# Altium footprint library aiskylab-04Dio-1A.PcbLib: 11 footprints
Each footprint in its own frame and in the unit in brackets; x right, y up, seen from the top. Pads: shape width x height; smd on the part's side, far side on the other; paste and mask are expansions set on the pad; w line width, h text height; cw(c..) or ccw(c..) is an arc to the next point about the centre after c.
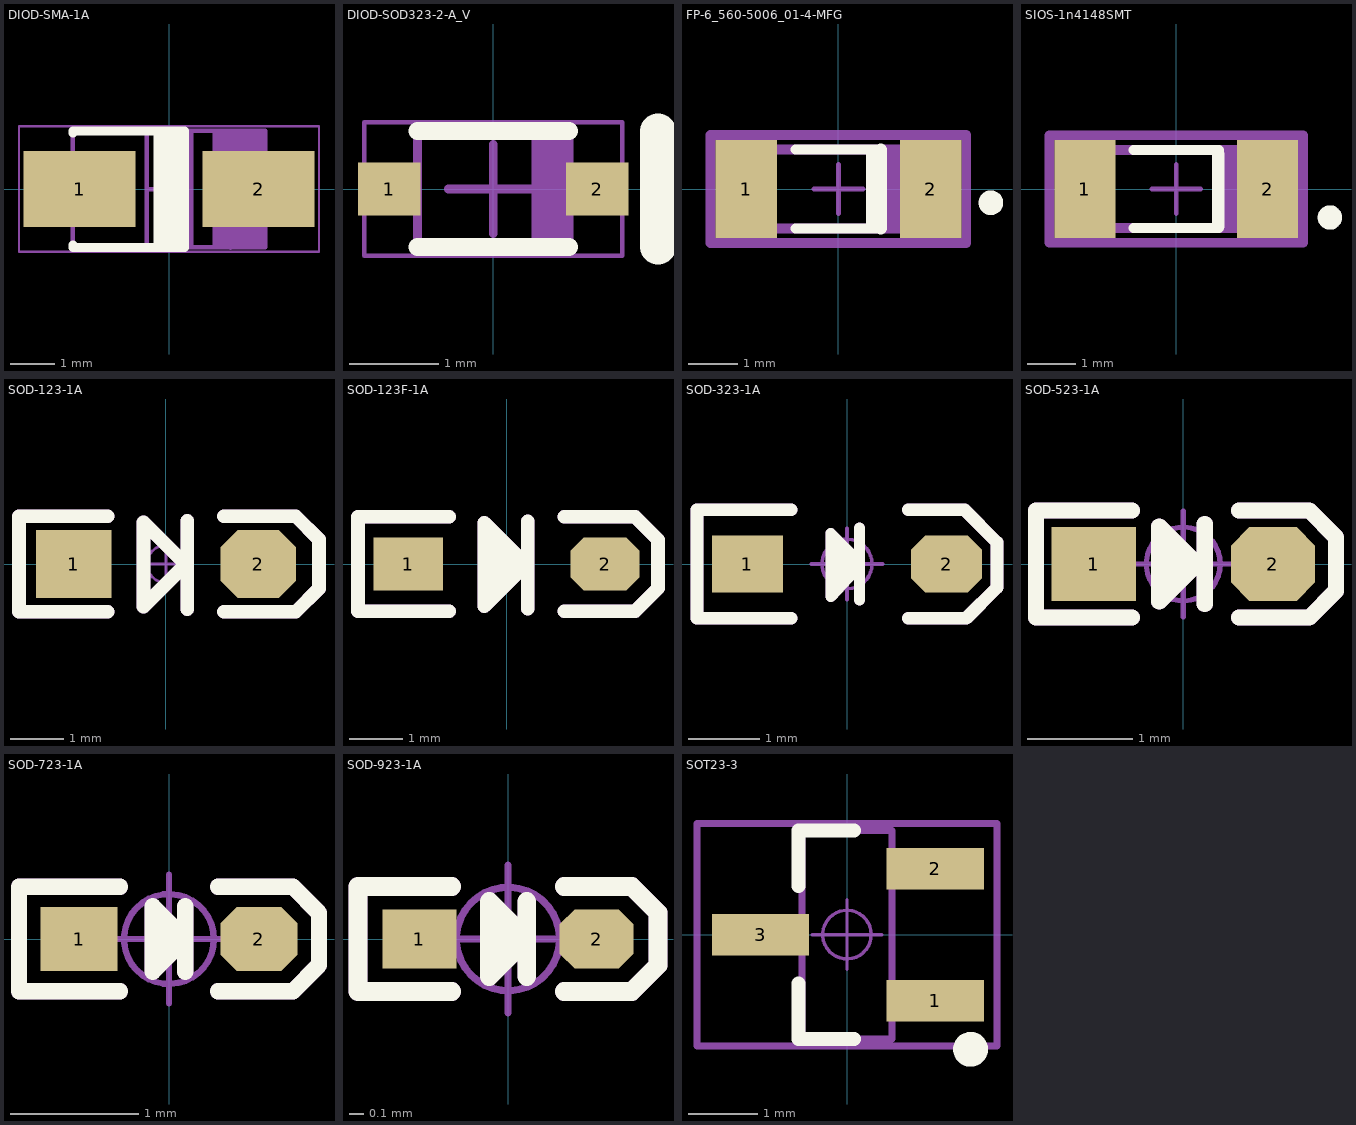
[diagram p0: the footprints below, top view; thin cyan lines are the x and y axes]

## DIOD-SMA-1A [mm] "SMA, 2-Leads, Body 4.3x2.605mm, Height 2.3mm"
height 2.3
pads (2):
  rect 2.5x1.7 smd: 1(-2,0) 2(2,0)
Top Overlay:
  rectangle: -0.35,-1.27 0.35,1.335
  lines w0.2: -2.15,-1.302 0.35,-1.302 0.35,1.302 -2.15,1.302 ; -2.15,-1.302 -2.15,-1.25 ; -2.15,1.25 -2.15,1.302
Top Designator:
  text ".Designator" at -7.619,-0.505 h1.52
Top Assembly:
  rectangle: 0.965,-1.302 2.15,1.27
  lines w0.05: -3.353,-1.397 3.347,-1.397 3.347,1.408 -3.353,1.408 -3.353,-1.397
  lines w0.1: -0.5,-1.302 -0.5,1.302 ; 0.5,-1.302 0.5,1.302 ; -2.15,-1.302 2.15,-1.302 2.15,1.302 -2.15,1.302 -2.15,-1.302
  lines w0.127: 1.372,-1.295 1.372,1.27
Top Component Center:
  lines w0.1: -0.5,0 0.5,0 ; 0,-0.5 0,0.5
Top Component Outline:
  lines w0.05: -3.35,-1.402 3.35,-1.402 3.35,1.402 -3.35,1.402 -3.35,-1.402
Top 3D Body:
  lines w0.1: -0.5,-1.302 -0.5,1.302 ; 0.5,-1.302 0.5,1.302 ; -2.15,-1.302 2.15,-1.302 2.15,1.302 -2.15,1.302 -2.15,-1.302
3D body "1_5-1_5.stp": height 0.01, standoff 0, extent -2.909,-0.75 -1.409,0.75
3D body "1_5-1_5.stp": height 0.01, standoff 0, extent 1.409,-0.75 2.909,0.75
3D body "SW3dPS-DO-214AC SMA.STEP": height 2.4, standoff 0, extent -2.6,-1.301 2.6,1.299

## DIOD-SOD323-2-A_V [mm] "SOD-323, 2-Leads, Body 1.7x1.3mm"
height 1.2
pads (2):
  rect 0.7x0.6 smd: 1(-1.168,0) 2(1.168,0)
Top Overlay:
  lines w0.2: -0.85,-0.65 0.85,-0.65 ; -0.85,0.65 0.85,0.65
  lines w0.4: 1.85,-0.65 1.85,0.65
Top Designator:
  text ".Designator" at -7.33,-0.508 h1.52
Top Assembly:
  region: 0.85,0.65 0.432,0.65 0.432,-0.65 0.85,-0.65
  lines w0.05: -1.45,-0.75 1.45,-0.75 1.45,0.75 -1.45,0.75 -1.45,-0.75
  lines w0.1: -0.85,-0.65 0.85,-0.65 0.85,0.65 -0.85,0.65 -0.85,-0.65
Top Component Center:
  lines w0.1: -0.5,0 0.5,0 ; 0,-0.5 0,0.5
Top Component Outline:
  lines w0.05: -1.45,-0.75 1.45,-0.75 1.45,0.75 -1.45,0.75 -1.45,-0.75
Top 3D Body:
  region: 0.85,0.65 0.432,0.65 0.432,-0.65 0.85,-0.65
  lines w0.1: -0.85,-0.65 0.85,-0.65 0.85,0.65 -0.85,0.65 -0.85,-0.65
3D body "sod-323.stp": height 1.16, standoff -0.02, extent -1.375,-0.675 1.375,0.675
3D body "0_65-0_4.stp": height 0.01, standoff 0, extent -1.724,-0.325 -1.324,0.325
3D body "0_65-0_4.stp": height 0.01, standoff 0, extent 1.324,-0.325 1.724,0.325

## FP-6_560-5006_01-4-MFG [mm]
pads (2):
  rect 1.25x2 smd paste+0 mask+0: 1(-1.875,0) 2(1.875,0)
Top Overlay:
  circle w0.25: c3.099,-0.279 r0.125
  lines w0.2: -0.875,-0.8 0.864,-0.8 ; -0.875,0.8 0.864,0.8
  lines w0.254: 0.686,-0.737 0.686,0.737 ; 0.864,-0.8 0.864,0.8
Top Assembly:
  rectangle: 0.965,-0.762 1.85,0.8
  lines w0.2: -1.85,-0.8 1.85,-0.8 1.85,0.8 -1.85,0.8 -1.85,-0.8
Bottom Assembly:
  lines w0.2: -2.6,-1.1 -2.6,1.1 2.6,1.1 2.6,-1.1 -2.6,-1.1
  text ".Designator" at 0,-0.001 h1
Top Component Outline:
  lines w0.2: -1.85,-0.8 1.85,-0.8 1.85,0.8 -1.85,0.8 -1.85,-0.8
Top 3D Body:
  lines w0.2: -1.85,-0.8 1.85,-0.8 1.85,0.8 -1.85,0.8 -1.85,-0.8
Bottom 3D Body:
  lines w0.2: -2.6,-1.1 -2.6,1.1 2.6,1.1 2.6,-1.1 -2.6,-1.1
Assembly Notes:
  lines w0.1: -0.5,0 0.5,0 ; 0,-0.5 0,0.5
3D body "Diode_Vishay_LS4148-GS18_eec.STEP": height 1.6, standoff 0, extent -1.75,-0.8 1.75,0.8
3D body "1_5-1_5.stp": height 0.01, standoff 0, extent 1,-0.737 2.5,0.763
3D body "1_5-1_5.stp": height 0.01, standoff 0, extent -2.5,-0.737 -1,0.763

## SIOS-1n4148SMT [mm]
pads (2):
  rect 1.25x2 smd paste+0 mask+0: 1(-1.875,0) 2(1.875,0)
Top Overlay:
  circle w0.25: c3.15,-0.584 r0.125
  lines w0.2: -0.875,-0.8 0.875,-0.8 ; -0.875,0.8 0.875,0.8
  lines w0.254: 0.864,-0.762 0.864,0.711
Top Assembly:
  rectangle: 0.965,-0.762 1.85,0.8
  lines w0.2: -1.85,-0.8 1.85,-0.8 1.85,0.8 -1.85,0.8 -1.85,-0.8
Bottom Assembly:
  lines w0.2: -2.6,-1.1 -2.6,1.1 2.6,1.1 2.6,-1.1 -2.6,-1.1
  text ".Designator" at 0,-0.001 h1
Top Component Outline:
  lines w0.2: -1.85,-0.8 1.85,-0.8 1.85,0.8 -1.85,0.8 -1.85,-0.8
Top 3D Body:
  lines w0.2: -1.85,-0.8 1.85,-0.8 1.85,0.8 -1.85,0.8 -1.85,-0.8
Bottom 3D Body:
  lines w0.2: -2.6,-1.1 -2.6,1.1 2.6,1.1 2.6,-1.1 -2.6,-1.1
Assembly Notes:
  lines w0.1: -0.5,0 0.5,0 ; 0,-0.5 0,0.5
3D body "1n4148-smt.stp": height 1.6, standoff 0, extent -1.8,-0.802 1.8,0.802

## SOD-123-1A [mil] "2.7x1.6X1.1mm（长宽高，不包括引脚）"
pads (2):
  rect 55x50 smd: 1(-67.5,0)
  oct 55x50 smd: 2(67.5,0)
Top Overlay:
  lines w10: -42.5,-35 -107.5,-35 -107.5,35 -42.5,35 ; 14,-0.8 -16.4,-31.2 -16.4,30.5 15.6,-1.5 ; 15.6,-33.1 15.6,31.7 ; 42.5,-35 95,-35 112,-18 112,18 95,35 42.5,35
Top Assembly:
  lines w10: -42.5,-35 -107.5,-35 -107.5,35 -42.5,35 ; 14,-0.8 -16.4,-31.2 -16.4,30.5 15.6,-1.5 ; 15.6,-33.1 15.6,31.7 ; 42.5,-35 95,-35 112,-18 112,18 95,35 42.5,35
Top Component Center:
  circle w1.97: c0,0 r13.78
  lines w1.97: -19.68,0 19.68,0 ; 0,-19.68 0,19.68
3D body "SOD-123.STEP": height 48.03, standoff 0, extent -72.84,-31.5 72.83,31.5

## SOD-123F-1A [mm] "2.7x1.6X1.1mm（长宽高，不包括引脚）"
pads (2):
  rect 1.3x1 smd: 1(-1.85,0)
  oct 1.3x1 smd: 2(1.85,0)
Top Overlay:
  lines w0.254: -1.079,-0.889 -2.794,-0.889 -2.794,0.889 -1.079,0.889 ; -0.254,0.559 -0.229,-0.432 0.254,0 0,0.254 0,0 0,-0.254 ; 0.356,-0.02 -0.417,-0.792 -0.417,0.775 0.396,-0.038 ; 0.396,-0.841 0.396,0.805 ; 1.079,-0.889 2.413,-0.889 2.845,-0.457 2.845,0.457 2.413,0.889 1.079,0.889
Top Assembly:
  lines w0.254: -1.079,-0.889 -2.794,-0.889 -2.794,0.889 -1.079,0.889 ; -0.254,0.559 -0.229,-0.432 0.254,0 0,0.254 0,0 0,-0.254 ; 0.356,-0.02 -0.417,-0.792 -0.417,0.775 0.396,-0.038 ; 0.396,-0.841 0.396,0.805 ; 1.079,-0.889 2.413,-0.889 2.845,-0.457 2.845,0.457 2.413,0.889 1.079,0.889
Top Component Center:
  circle w0.05: c0,0 r0.35
  lines w0.05: -0.5,0 0.5,0 ; 0,-0.5 0,0.5
3D body "SOD-123F.STEP": height 1.15, standoff 0.04, extent -1.9,-0.8 1.9,0.8

## SOD-323-1A [mm] "1.8x1.3X0.9mm（长宽高，不包括引脚）"
pads (2):
  rect 1x0.8 smd: 1(-1.4,0)
  oct 1x0.8 smd: 2(1.4,0)
Top Overlay:
  lines w0.152: 0.178,-0.508 0.178,0.508 ; 0.178,-0.025 -0.229,-0.457 -0.229,0.432 0.178,0.025
  lines w0.178: -0.787,-0.762 -2.108,-0.762 -2.108,0.762 -0.787,0.762 ; 0.864,-0.762 1.676,-0.762 2.108,-0.33 2.108,0.305 1.651,0.762 0.864,0.762
  lines w0.254: -0.127,0.254 -0.152,-0.178 0.025,-0.025 -0.025,0.127
Top Assembly:
  lines w0.152: 0.178,-0.508 0.178,0.508 ; 0.178,-0.025 -0.229,-0.457 -0.229,0.432 0.178,0.025
  lines w0.178: -0.787,-0.762 -2.108,-0.762 -2.108,0.762 -0.787,0.762 ; 0.864,-0.762 1.676,-0.762 2.108,-0.33 2.108,0.305 1.651,0.762 0.864,0.762
  lines w0.254: -0.127,0.254 -0.152,-0.178 0.025,-0.025 -0.025,0.127
Top Component Center:
  circle w0.05: c0,0 r0.35
  lines w0.05: -0.5,0 0.5,0 ; 0,-0.5 0,0.5
3D body "SOD-323.STEP": height 1, standoff 0.04, extent -1.337,-0.631 1.311,0.669

## SOD-523-1A [mm] "1.2x0.8X0.6mm（长宽高，不包括引脚）"
pads (2):
  rect 0.8x0.7 smd: 1(-0.85,0)
  oct 0.8x0.7 smd: 2(0.85,0)
Top Overlay:
  rectangle: -0.178,-0.178 0,0.178
  lines w0.152: -0.488,-0.508 -1.397,-0.508 -1.397,0.508 -0.488,0.508 ; -0.127,0 0.127,0 ; 0.203,-0.381 0.203,0.381 ; 0.528,-0.508 1.194,-0.508 1.448,-0.254 1.448,0.254 1.194,0.508 0.528,0.508 ; 0.127,0 -0.229,0.356 -0.229,-0.356 0.127,0
Top Assembly:
  rectangle: -0.178,-0.178 0,0.178
  lines w0.152: -0.488,-0.508 -1.397,-0.508 -1.397,0.508 -0.488,0.508 ; -0.127,0 0.127,0 ; 0.203,-0.381 0.203,0.381 ; 0.528,-0.508 1.194,-0.508 1.448,-0.254 1.448,0.254 1.194,0.508 0.528,0.508 ; 0.127,0 -0.229,0.356 -0.229,-0.356 0.127,0
Top Component Center:
  circle w0.05: c0,0 r0.35
  lines w0.05: -0.5,0 0.5,0 ; 0,-0.5 0,0.5
3D body "SOD-523.STEP": height 0.65, standoff 0.05, extent -0.8,-0.4 0.8,0.4

## SOD-723-1A [mm] "1x0.6X0.5mm（长宽高，不包括引脚）"
pads (2):
  rect 0.6x0.5 smd: 1(-0.7,0)
  oct 0.6x0.5 smd: 2(0.7,0)
Top Overlay:
  lines w0.127: -0.381,-0.406 -1.168,-0.406 -1.168,0.406 -0.381,0.406 ; 0,-0.127 0,0.127 -0.127,0.254 ; 0.127,-0.254 0.127,0.254 ; 0.381,-0.406 0.965,-0.406 1.168,-0.203 1.168,0.203 0.965,0.406 0.381,0.406 ; -0.127,0.254 0.127,0 -0.127,-0.254 -0.127,0.254
Top Assembly:
  lines w0.127: -0.381,-0.406 -1.168,-0.406 -1.168,0.406 -0.381,0.406 ; 0,-0.127 0,0.127 -0.127,0.254 ; 0.127,-0.254 0.127,0.254 ; 0.381,-0.406 0.965,-0.406 1.168,-0.203 1.168,0.203 0.965,0.406 0.381,0.406 ; -0.127,0.254 0.127,0 -0.127,-0.254 -0.127,0.254
Top Component Center:
  circle w0.05: c0,0 r0.35
  lines w0.05: -0.5,0 0.5,0 ; 0,-0.5 0,0.5
3D body "SOD-723.STEP": height 0.53, standoff 0.03, extent -0.7,-0.3 0.7,0.3

## SOD-923-1A [mm] "0.8x0.6X0.4mm（长宽高，不包括引脚）"
pads (2):
  rect 0.5x0.4 smd: 1(-0.6,0)
  oct 0.5x0.4 smd: 2(0.6,0)
Top Overlay:
  lines w0.127: -0.381,-0.356 -1.016,-0.356 -1.016,0.356 -0.381,0.356 ; 0,-0.127 0,0.127 -0.127,0.254 ; 0.127,-0.254 0.127,0.254 ; 0.381,-0.356 0.838,-0.356 1.016,-0.178 1.016,0.178 0.838,0.356 0.381,0.356 ; -0.127,0.254 0.127,0 -0.127,-0.254 -0.127,0.254
Top Assembly:
  lines w0.127: -0.381,-0.356 -1.016,-0.356 -1.016,0.356 -0.381,0.356 ; 0,-0.127 0,0.127 -0.127,0.254 ; 0.127,-0.254 0.127,0.254 ; 0.381,-0.356 0.838,-0.356 1.016,-0.178 1.016,0.178 0.838,0.356 0.381,0.356 ; -0.127,0.254 0.127,0 -0.127,-0.254 -0.127,0.254
Top Component Center:
  circle w0.05: c0,0 r0.35
  lines w0.05: -0.5,0 0.5,0 ; 0,-0.5 0,0.5
3D body "SOD-923.STEP": height 0.43, standoff 0.03, extent -0.5,-0.3 0.5,0.3

## SOT23-3 [mm] "3x1.3x1mm(长宽高)"
height 1.1
pads (3):
  rect 1.4x0.6 smd: 1(1.27,-0.95) 2(1.27,0.95) 3(-1.244,0)
Top Overlay:
  circle w0.25: c1.778,-1.651 r0.125
  lines w0.2: -0.7,-0.7 -0.7,-1.5 0.1,-1.5 ; -0.7,0.7 -0.7,1.5 0.1,1.5
Top Component Center:
  circle w0.05: c0,0 r0.35
  lines w0.05: -0.5,0 0.5,0 ; 0,-0.5 0,0.5
Top Component Outline:
  lines w0.1: -2.159,-1.6 2.159,-1.6 2.159,1.6 -2.159,1.6 -2.159,-1.6
Bottom Value:
  lines w0.1: -0.65,-1.5 -0.65,1.5 0.65,1.5 0.65,-1.5 -0.65,-1.5
3D body "SOT23-3.STEP": height 1.05, standoff 0, extent -1.2,-1.5 1.2,1.5